# Altium integrated library W005M.IntLib: 1 symbol
Pins are listed as number, name and electrical type; pins without a type are passive.

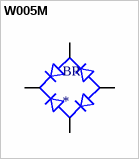
[diagram p0: symbol W005M]

## W005M
designator BR
Bridge Rectifier Single Phase Standard 50V Through Hole WOM; MP: W005M; MF: GeneSiC Semiconductor; Value: *; Availability: Unavailable; Price: None; Package: 4-4 Rectron; SnapEDA_Link: https://www.snapeda.com/parts/W005M/GeneSiC%20Semiconductor/view-part/1824904/?ref=snap
footprint DIOB_W005M
pins: 1 POS, 2 AC1, 3 NEG, 4 AC2